# Altium footprint library DIP16.PcbLib: 1 footprints
Each footprint in its own frame and in the unit in brackets; x right, y up, seen from the top. Pads: shape width x height; smd on the part's side, far side on the other; paste and mask are expansions set on the pad; w line width, h text height; cw(c..) or ccw(c..) is an arc to the next point about the centre after c.
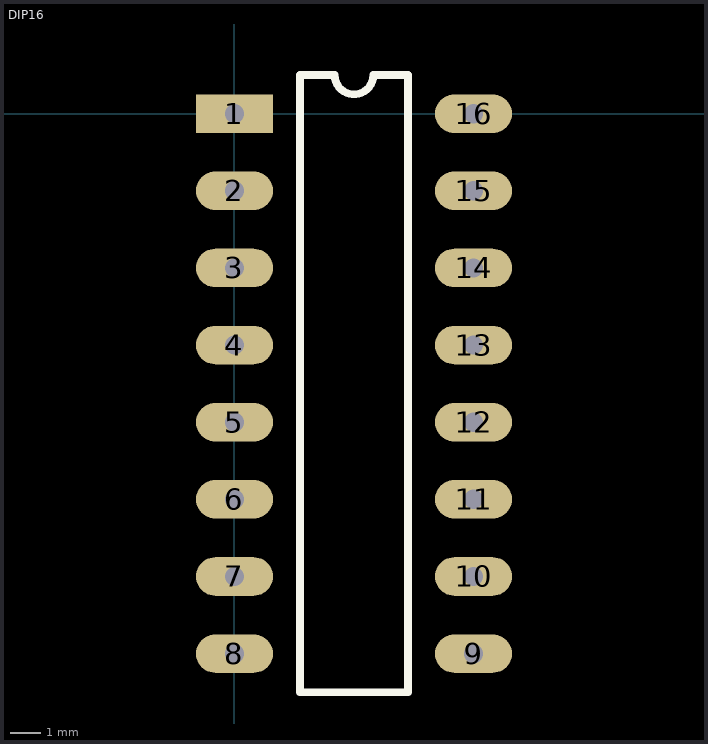
[diagram p0: the footprint, top view; thin cyan lines are the x and y axes]

## DIP16 [mil]
pads (16):
  rect 100x50 hole 25: 1(0,0)
  oval 100x50 hole 25: 2(0,-100) 3(0,-200) 4(0,-300) 5(0,-400) 6(0,-500) 7(0,-600) 8(0,-700) 9(310,-700) 10(310,-600) 11(310,-500) 12(310,-400) 13(310,-300) 14(310,-200) 15(310,-100) 16(310,0)
Top Overlay:
  lines w10: 85,-750 225,-750 225,50 180,50 cw(c155,50) 130,50 85,50 85,-750